# Altium integrated library STMicroelectronics Power Management Linear Regulator.IntLib: 506 symbols (part 8 of 10)
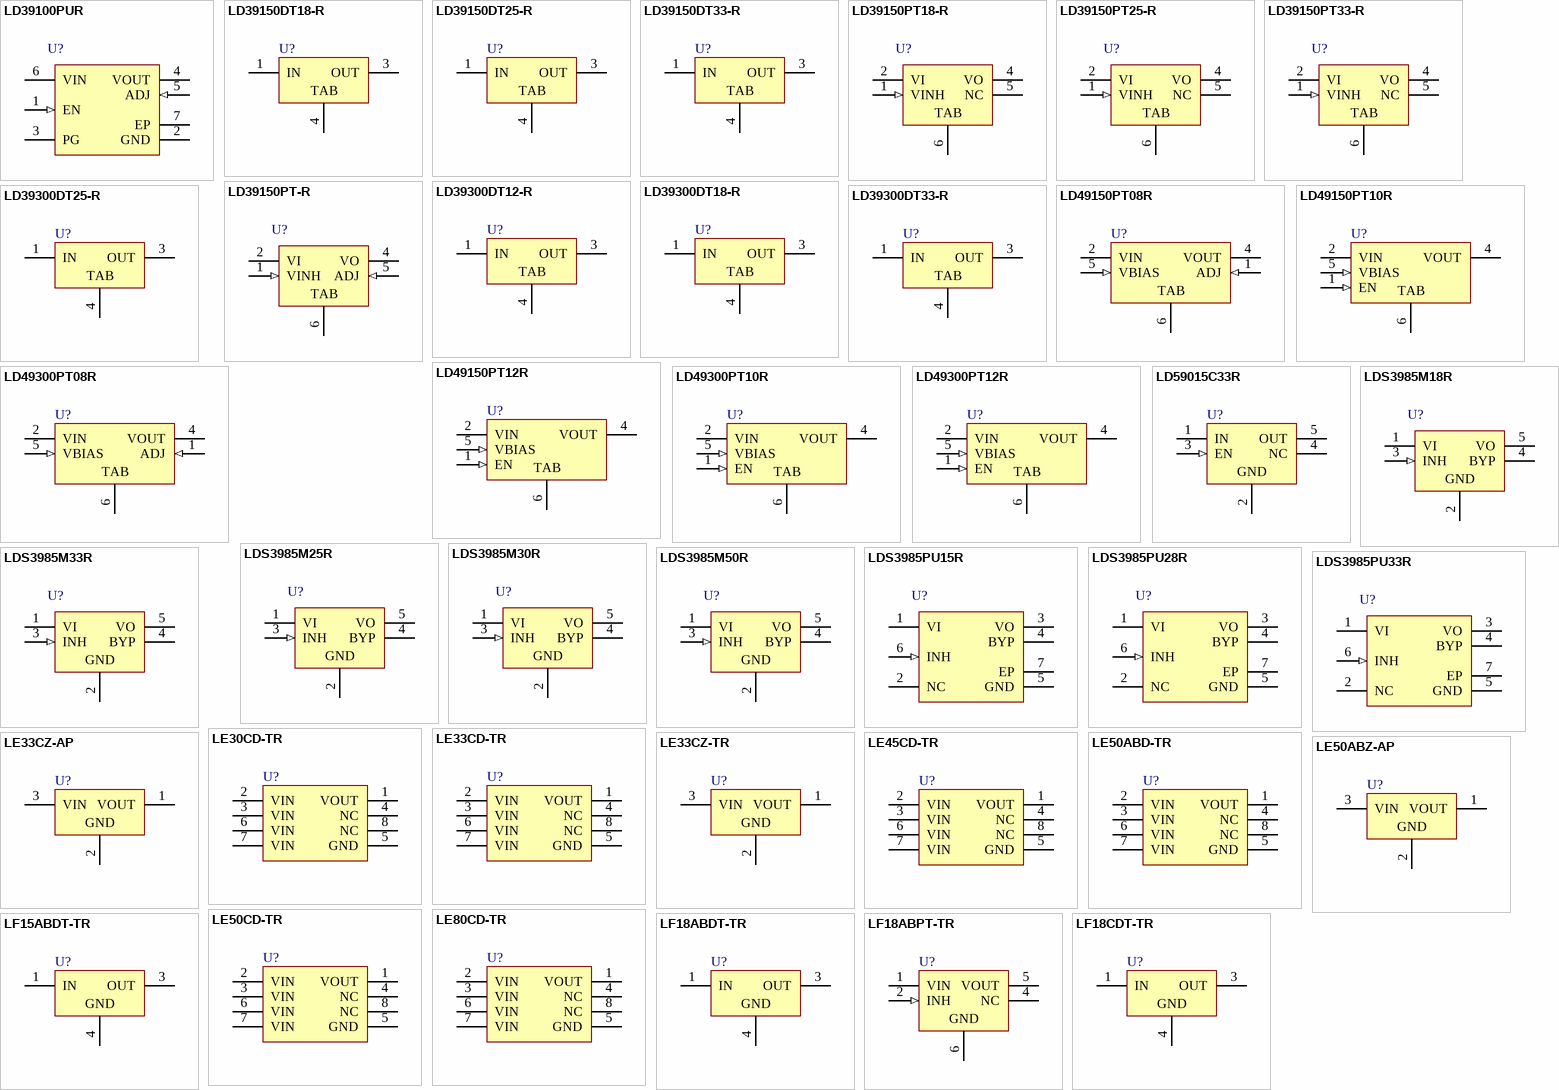
[diagram p19: symbols LD39100PUR to LF18CDT-TR]

## LE50ABZ-AP
designator U?
Very Low Drop Voltage Regulators with Inhibit, 5V, 3-Pin TO-92, Ammopak; PartNumber: LE50ABZ-AP; DatasheetVersion: Jul-2008; PackageVersion: 2011; PackageReference: TO-92; PackageDescription: TO, Flat Index; 3 In-Line, Axial Leads; Body Dia. 4.7mm; Lead Dia. 0.56 mm (max); ComponentLink1Description: Manufacturer URL; ComponentLink1URL: http://www.st.com; ComponentLink2Description: Datasheet; ComponentLink2URL: http://www.st.com/internet/com/TECHNICAL_RESOURCES/TECHNICAL_LITERATURE/DATASHEET/CD00000545.pdf
footprint TO-92 (TO, Flat Index; 3 In-Line, Axial Leads; Body Dia. 4.7mm; Lead Dia. 0.56 mm (max))
pins: 1 VOUT (power), 2 GND (power), 3 VIN (power)

## LE50CD-TR
designator U?
Very Low Drop Voltage Regulators with Inhibit, 5V, 8-Pin SO, Tape and Reel; PartNumber: LE50CD-TR; DatasheetVersion: Jul-2008; PackageVersion: Dec-2002; PackageReference: SO8; PackageDescription: 8-Pin Small Outline Integrated Circuit 1.27 mm Pitch; Code_JEDEC: MS-012-AA; Code_IPC: SOIC127P600-8; ComponentLink1Description: Manufacturer URL; ComponentLink1URL: http://www.st.com; ComponentLink2Description: Datasheet; ComponentLink2URL: http://www.st.com/internet/com/TECHNICAL_RESOURCES/TECHNICAL_LITERATURE/DATASHEET/CD00000545.pdf; ComponentLink3Description: Package Specification; ComponentLink3URL: http://www.st.com/internet/com/TECHNICAL_RESOURCES/TECHNICAL_LITERATURE/PACKAGE_INFORMATION/CD00004680.pdf
footprint SO8_N (SOIC, 8-Leads, Body 4.9x3.9mm, Pitch 1.27mm, IPC Medium Density)
footprint SO8_L (SOIC, 8-Leads, Body 4.9x3.9mm, Pitch 1.27mm, IPC High Density)
footprint SO8_M (SOIC, 8-Leads, Body 4.9x3.9mm, Pitch 1.27mm, IPC Low Density)
pins: 1 VOUT (power), 2 VIN (power), 3 VIN (power), 4 NC, 5 GND (power), 6 VIN (power), 7 VIN (power), 8 NC

## LE80CD-TR
designator U?
Very Low Drop Voltage Regulators with Inhibit, 8V, 8-Pin SO, Tape and Reel; PartNumber: LE80CD-TR; DatasheetVersion: Jul-2008; PackageVersion: Dec-2002; PackageReference: SO8; PackageDescription: 8-Pin Small Outline Integrated Circuit 1.27 mm Pitch; Code_JEDEC: MS-012-AA; Code_IPC: SOIC127P600-8; ComponentLink1Description: Manufacturer URL; ComponentLink1URL: http://www.st.com; ComponentLink2Description: Datasheet; ComponentLink2URL: http://www.st.com/internet/com/TECHNICAL_RESOURCES/TECHNICAL_LITERATURE/DATASHEET/CD00000545.pdf; ComponentLink3Description: Package Specification; ComponentLink3URL: http://www.st.com/internet/com/TECHNICAL_RESOURCES/TECHNICAL_LITERATURE/PACKAGE_INFORMATION/CD00004680.pdf
footprint SO8_N (SOIC, 8-Leads, Body 4.9x3.9mm, Pitch 1.27mm, IPC Medium Density)
footprint SO8_L (SOIC, 8-Leads, Body 4.9x3.9mm, Pitch 1.27mm, IPC High Density)
footprint SO8_M (SOIC, 8-Leads, Body 4.9x3.9mm, Pitch 1.27mm, IPC Low Density)
pins: 1 VOUT (power), 2 VIN (power), 3 VIN (power), 4 NC, 5 GND (power), 6 VIN (power), 7 VIN (power), 8 NC

## LF15ABDT-TR
designator U?
500mA, Very Low Drop (0.45V) Voltage Regulator, 1.5V, 3-Pin DPAK, Tape and Reel; PartNumber: LF15ABDT-TR; DatasheetVersion: Nov-2010; PackageVersion: 2011; PackageReference: TO-252; PackageDescription: 3-Pin Transistor Outline Package 2.28 mm Pitch, 9.7 mm Lead Span (DPAK); ComponentLink1Description: Manufacturer URL; ComponentLink1URL: http://www.st.com; ComponentLink2Description: Datasheet; ComponentLink2URL: http://www.st.com/internet/com/TECHNICAL_RESOURCES/TECHNICAL_LITERATURE/DATASHEET/CD00000546.pdf
footprint TO-252_N (D-PAK, 4-Leads, Body 6.1x6.5mm, Pitch 2.28mm, Lead Span 9.7mm, IPC Medium Density)
footprint TO-252_L (D-PAK, 4-Leads, Body 6.1x6.5mm, Pitch 2.28mm, Lead Span 9.7mm, IPC High Density)
footprint TO-252_M (D-PAK, 4-Leads, Body 6.1x6.5mm, Pitch 2.28mm, Lead Span 9.7mm, IPC Low Density)
pins: 1 IN (power), 3 OUT (power), 4 GND (power)

## LF18ABDT-TR
designator U?
500mA, Very Low Drop (0.45V) Voltage Regulator, 1.8V, 3-Pin DPAK, Tape and Reel; PartNumber: LF18ABDT-TR; DatasheetVersion: Nov-2010; PackageVersion: 2011; PackageReference: TO-252; PackageDescription: 3-Pin Transistor Outline Package 2.28 mm Pitch, 9.7 mm Lead Span (DPAK); ComponentLink1Description: Manufacturer URL; ComponentLink1URL: http://www.st.com; ComponentLink2Description: Datasheet; ComponentLink2URL: http://www.st.com/internet/com/TECHNICAL_RESOURCES/TECHNICAL_LITERATURE/DATASHEET/CD00000546.pdf
footprint TO-252_N (D-PAK, 4-Leads, Body 6.1x6.5mm, Pitch 2.28mm, Lead Span 9.7mm, IPC Medium Density)
footprint TO-252_L (D-PAK, 4-Leads, Body 6.1x6.5mm, Pitch 2.28mm, Lead Span 9.7mm, IPC High Density)
footprint TO-252_M (D-PAK, 4-Leads, Body 6.1x6.5mm, Pitch 2.28mm, Lead Span 9.7mm, IPC Low Density)
pins: 1 IN (power), 3 OUT (power), 4 GND (power)

## LF18ABPT-TR
designator U?
500mA, Very Low Drop (0.45V) Voltage Regulator, 1.8V, 5-Pin PPAK, Tape and Reel; PartNumber: LF18ABPT-TR; DatasheetVersion: Nov-2010; PackageVersion: Jun-2004; PackageReference: PPAK; PackageDescription: 5-Pin Transistor Outline Package 1.27 mm Pitch, 9.7 mm Lead Span; ComponentLink1Description: Manufacturer URL; ComponentLink1URL: http://www.st.com; ComponentLink2Description: Datasheet; ComponentLink2URL: http://www.st.com/internet/com/TECHNICAL_RESOURCES/TECHNICAL_LITERATURE/DATASHEET/CD00000546.pdf
footprint PPAK_N (D-PAK, 6-Leads, Body 6.1x6.5mm, Pitch 1.27mm, Lead Span 9.7mm, IPC Medium Density)
footprint PPAK_L (D-PAK, 6-Leads, Body 6.1x6.5mm, Pitch 1.27mm, Lead Span 9.7mm, IPC High Density)
footprint PPAK_M (D-PAK, 6-Leads, Body 6.1x6.5mm, Pitch 1.27mm, Lead Span 9.7mm, IPC Low Density)
pins: 1 VIN (power), 2 INH (in), 4 NC, 5 VOUT (power), 6 GND (power)

## LF18CDT-TR
designator U?
500mA, Very Low Drop (0.45V) Voltage Regulator, 1.8V, 3-Pin DPAK, Tape and Reel; PartNumber: LF18CDT-TR; DatasheetVersion: Nov-2010; PackageVersion: 2011; PackageReference: TO-252; PackageDescription: 3-Pin Transistor Outline Package 2.28 mm Pitch, 9.7 mm Lead Span (DPAK); ComponentLink1Description: Manufacturer URL; ComponentLink1URL: http://www.st.com; ComponentLink2Description: Datasheet; ComponentLink2URL: http://www.st.com/internet/com/TECHNICAL_RESOURCES/TECHNICAL_LITERATURE/DATASHEET/CD00000546.pdf
footprint TO-252_N (D-PAK, 4-Leads, Body 6.1x6.5mm, Pitch 2.28mm, Lead Span 9.7mm, IPC Medium Density)
footprint TO-252_L (D-PAK, 4-Leads, Body 6.1x6.5mm, Pitch 2.28mm, Lead Span 9.7mm, IPC High Density)
footprint TO-252_M (D-PAK, 4-Leads, Body 6.1x6.5mm, Pitch 2.28mm, Lead Span 9.7mm, IPC Low Density)
pins: 1 IN (power), 3 OUT (power), 4 GND (power)

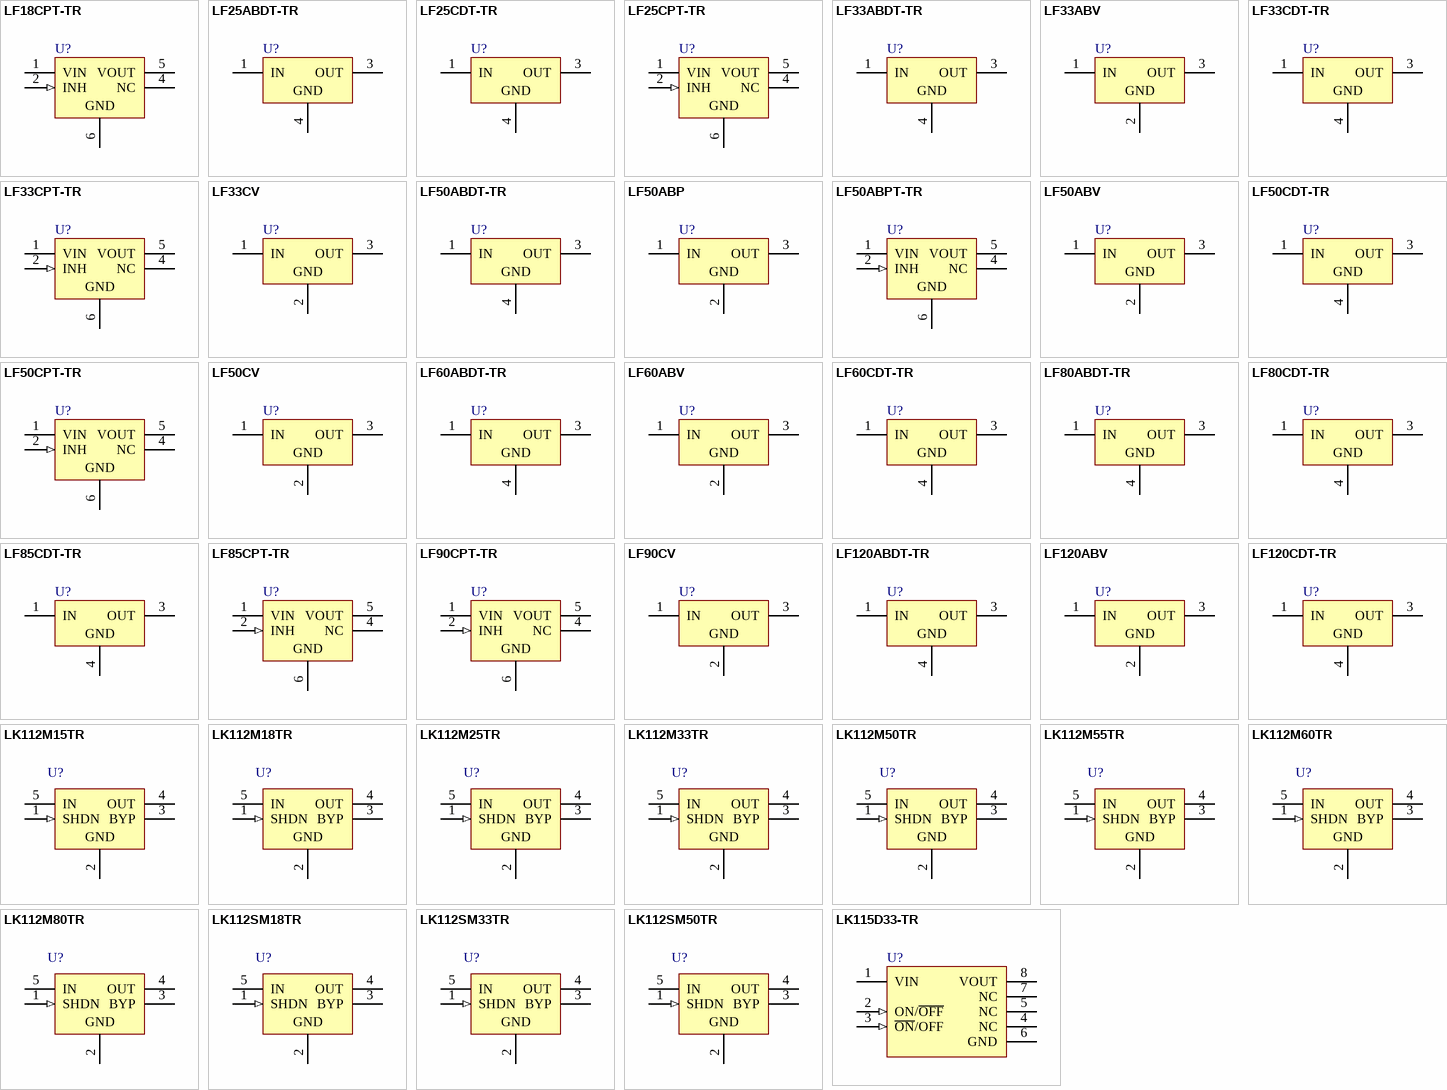
[diagram p10: symbols LF18CPT-TR to LK115D33-TR]

## LF18CPT-TR
designator U?
500mA, Very Low Drop (0.45V) Voltage Regulator, 1.8V, 5-Pin PPAK, Tape and Reel; PartNumber: LF18CPT-TR; DatasheetVersion: Nov-2010; PackageVersion: Jun-2004; PackageReference: PPAK; PackageDescription: 5-Pin Transistor Outline Package 1.27 mm Pitch, 9.7 mm Lead Span; ComponentLink1Description: Manufacturer URL; ComponentLink1URL: http://www.st.com; ComponentLink2Description: Datasheet; ComponentLink2URL: http://www.st.com/internet/com/TECHNICAL_RESOURCES/TECHNICAL_LITERATURE/DATASHEET/CD00000546.pdf
footprint PPAK_N (D-PAK, 6-Leads, Body 6.1x6.5mm, Pitch 1.27mm, Lead Span 9.7mm, IPC Medium Density)
footprint PPAK_L (D-PAK, 6-Leads, Body 6.1x6.5mm, Pitch 1.27mm, Lead Span 9.7mm, IPC High Density)
footprint PPAK_M (D-PAK, 6-Leads, Body 6.1x6.5mm, Pitch 1.27mm, Lead Span 9.7mm, IPC Low Density)
pins: 1 VIN (power), 2 INH (in), 4 NC, 5 VOUT (power), 6 GND (power)

## LF25ABDT-TR
designator U?
500mA, Very Low Drop (0.45V) Voltage Regulator, 2.5V, 3-Pin DPAK, Tape and Reel; PartNumber: LF25ABDT-TR; DatasheetVersion: Nov-2010; PackageVersion: 2011; PackageReference: TO-252; PackageDescription: 3-Pin Transistor Outline Package 2.28 mm Pitch, 9.7 mm Lead Span (DPAK); ComponentLink1Description: Manufacturer URL; ComponentLink1URL: http://www.st.com; ComponentLink2Description: Datasheet; ComponentLink2URL: http://www.st.com/internet/com/TECHNICAL_RESOURCES/TECHNICAL_LITERATURE/DATASHEET/CD00000546.pdf
footprint TO-252_N (D-PAK, 4-Leads, Body 6.1x6.5mm, Pitch 2.28mm, Lead Span 9.7mm, IPC Medium Density)
footprint TO-252_L (D-PAK, 4-Leads, Body 6.1x6.5mm, Pitch 2.28mm, Lead Span 9.7mm, IPC High Density)
footprint TO-252_M (D-PAK, 4-Leads, Body 6.1x6.5mm, Pitch 2.28mm, Lead Span 9.7mm, IPC Low Density)
pins: 1 IN (power), 3 OUT (power), 4 GND (power)

## LF25CDT-TR
designator U?
500mA, Very Low Drop (0.45V) Voltage Regulator, 2.5V, 3-Pin DPAK, Tape and Reel; PartNumber: LF25CDT-TR; DatasheetVersion: Nov-2010; PackageVersion: 2011; PackageReference: TO-252; PackageDescription: 3-Pin Transistor Outline Package 2.28 mm Pitch, 9.7 mm Lead Span (DPAK); ComponentLink1Description: Manufacturer URL; ComponentLink1URL: http://www.st.com; ComponentLink2Description: Datasheet; ComponentLink2URL: http://www.st.com/internet/com/TECHNICAL_RESOURCES/TECHNICAL_LITERATURE/DATASHEET/CD00000546.pdf
footprint TO-252_N (D-PAK, 4-Leads, Body 6.1x6.5mm, Pitch 2.28mm, Lead Span 9.7mm, IPC Medium Density)
footprint TO-252_L (D-PAK, 4-Leads, Body 6.1x6.5mm, Pitch 2.28mm, Lead Span 9.7mm, IPC High Density)
footprint TO-252_M (D-PAK, 4-Leads, Body 6.1x6.5mm, Pitch 2.28mm, Lead Span 9.7mm, IPC Low Density)
pins: 1 IN (power), 3 OUT (power), 4 GND (power)

## LF25CPT-TR
designator U?
500mA, Very Low Drop (0.45V) Voltage Regulator, 2.5V, 5-Pin PPAK, Tape and Reel; PartNumber: LF25CPT-TR; DatasheetVersion: Nov-2010; PackageVersion: Jun-2004; PackageReference: PPAK; PackageDescription: 5-Pin Transistor Outline Package 1.27 mm Pitch, 9.7 mm Lead Span; ComponentLink1Description: Manufacturer URL; ComponentLink1URL: http://www.st.com; ComponentLink2Description: Datasheet; ComponentLink2URL: http://www.st.com/internet/com/TECHNICAL_RESOURCES/TECHNICAL_LITERATURE/DATASHEET/CD00000546.pdf
footprint PPAK_N (D-PAK, 6-Leads, Body 6.1x6.5mm, Pitch 1.27mm, Lead Span 9.7mm, IPC Medium Density)
footprint PPAK_L (D-PAK, 6-Leads, Body 6.1x6.5mm, Pitch 1.27mm, Lead Span 9.7mm, IPC High Density)
footprint PPAK_M (D-PAK, 6-Leads, Body 6.1x6.5mm, Pitch 1.27mm, Lead Span 9.7mm, IPC Low Density)
pins: 1 VIN (power), 2 INH (in), 4 NC, 5 VOUT (power), 6 GND (power)

## LF33ABDT-TR
designator U?
500mA, Very Low Drop (0.45V) Voltage Regulator, 3.3V, 3-Pin DPAK, Tape and Reel; PartNumber: LF33ABDT-TR; DatasheetVersion: Nov-2010; PackageVersion: 2011; PackageReference: TO-252; PackageDescription: 3-Pin Transistor Outline Package 2.28 mm Pitch, 9.7 mm Lead Span (DPAK); ComponentLink1Description: Manufacturer URL; ComponentLink1URL: http://www.st.com; ComponentLink2Description: Datasheet; ComponentLink2URL: http://www.st.com/internet/com/TECHNICAL_RESOURCES/TECHNICAL_LITERATURE/DATASHEET/CD00000546.pdf
footprint TO-252_N (D-PAK, 4-Leads, Body 6.1x6.5mm, Pitch 2.28mm, Lead Span 9.7mm, IPC Medium Density)
footprint TO-252_L (D-PAK, 4-Leads, Body 6.1x6.5mm, Pitch 2.28mm, Lead Span 9.7mm, IPC High Density)
footprint TO-252_M (D-PAK, 4-Leads, Body 6.1x6.5mm, Pitch 2.28mm, Lead Span 9.7mm, IPC Low Density)
pins: 1 IN (power), 3 OUT (power), 4 GND (power)

## LF33ABV
designator U?
500mA, Very Low Drop (0.45V) Voltage Regulator, 3.3V, 3-Pin TO-220; PartNumber: LF33ABV; DatasheetVersion: Nov-2010; PackageVersion: ver3.0; PackageReference: TO220; PackageDescription: TO, Thru-Hole, Vertical, Heatsink Mounted; 3 In-Line Leads; Pitch 2.54 mm; ComponentLink1Description: Manufacturer URL; ComponentLink1URL: http://www.st.com; ComponentLink2Description: Datasheet; ComponentLink2URL: http://www.st.com/internet/com/TECHNICAL_RESOURCES/TECHNICAL_LITERATURE/DATASHEET/CD00000546.pdf; ComponentLink3Description: Package Specification; ComponentLink3URL: http://www.st.com/internet/com/TECHNICAL_RESOURCES/TECHNICAL_LITERATURE/PACKAGE_INFORMATION/CD00004649.pdf
footprint TO220 (TO, Thru-Hole, Vertical, Heatsink Mounted; 3 In-Line Leads; Pitch 2.54 mm)
pins: 1 IN (power), 2 GND (power), 3 OUT (power)

## LF33CDT-TR
designator U?
500mA, Very Low Drop (0.45V) Voltage Regulator, 3.3V, 3-Pin DPAK, Tape and Reel; PartNumber: LF33CDT-TR; DatasheetVersion: Nov-2010; PackageVersion: 2011; PackageReference: TO-252; PackageDescription: 3-Pin Transistor Outline Package 2.28 mm Pitch, 9.7 mm Lead Span (DPAK); ComponentLink1Description: Manufacturer URL; ComponentLink1URL: http://www.st.com; ComponentLink2Description: Datasheet; ComponentLink2URL: http://www.st.com/internet/com/TECHNICAL_RESOURCES/TECHNICAL_LITERATURE/DATASHEET/CD00000546.pdf
footprint TO-252_N (D-PAK, 4-Leads, Body 6.1x6.5mm, Pitch 2.28mm, Lead Span 9.7mm, IPC Medium Density)
footprint TO-252_L (D-PAK, 4-Leads, Body 6.1x6.5mm, Pitch 2.28mm, Lead Span 9.7mm, IPC High Density)
footprint TO-252_M (D-PAK, 4-Leads, Body 6.1x6.5mm, Pitch 2.28mm, Lead Span 9.7mm, IPC Low Density)
pins: 1 IN (power), 3 OUT (power), 4 GND (power)

## LF33CPT-TR
designator U?
500mA, Very Low Drop (0.45V) Voltage Regulator, 3.3V, 5-Pin PPAK, Tape and Reel; PartNumber: LF33CPT-TR; DatasheetVersion: Nov-2010; PackageVersion: Jun-2004; PackageReference: PPAK; PackageDescription: 5-Pin Transistor Outline Package 1.27 mm Pitch, 9.7 mm Lead Span; ComponentLink1Description: Manufacturer URL; ComponentLink1URL: http://www.st.com; ComponentLink2Description: Datasheet; ComponentLink2URL: http://www.st.com/internet/com/TECHNICAL_RESOURCES/TECHNICAL_LITERATURE/DATASHEET/CD00000546.pdf
footprint PPAK_N (D-PAK, 6-Leads, Body 6.1x6.5mm, Pitch 1.27mm, Lead Span 9.7mm, IPC Medium Density)
footprint PPAK_L (D-PAK, 6-Leads, Body 6.1x6.5mm, Pitch 1.27mm, Lead Span 9.7mm, IPC High Density)
footprint PPAK_M (D-PAK, 6-Leads, Body 6.1x6.5mm, Pitch 1.27mm, Lead Span 9.7mm, IPC Low Density)
pins: 1 VIN (power), 2 INH (in), 4 NC, 5 VOUT (power), 6 GND (power)

## LF33CV
designator U?
500mA, Very Low Drop (0.45V) Voltage Regulator, 3.3V, 3-Pin TO-220; PartNumber: LF33CV; DatasheetVersion: Nov-2010; PackageVersion: ver3.0; PackageReference: TO220; PackageDescription: TO, Thru-Hole, Vertical, Heatsink Mounted; 3 In-Line Leads; Pitch 2.54 mm; ComponentLink1Description: Manufacturer URL; ComponentLink1URL: http://www.st.com; ComponentLink2Description: Datasheet; ComponentLink2URL: http://www.st.com/internet/com/TECHNICAL_RESOURCES/TECHNICAL_LITERATURE/DATASHEET/CD00000546.pdf; ComponentLink3Description: Package Specification; ComponentLink3URL: http://www.st.com/internet/com/TECHNICAL_RESOURCES/TECHNICAL_LITERATURE/PACKAGE_INFORMATION/CD00004649.pdf
footprint TO220 (TO, Thru-Hole, Vertical, Heatsink Mounted; 3 In-Line Leads; Pitch 2.54 mm)
pins: 1 IN (power), 2 GND (power), 3 OUT (power)

## LF50ABDT-TR
designator U?
500mA, Very Low Drop (0.45V) Voltage Regulator, 5V, 3-Pin DPAK, Tape and Reel; PartNumber: LF50ABDT-TR; DatasheetVersion: Nov-2010; PackageVersion: 2011; PackageReference: TO-252; PackageDescription: 3-Pin Transistor Outline Package 2.28 mm Pitch, 9.7 mm Lead Span (DPAK); ComponentLink1Description: Manufacturer URL; ComponentLink1URL: http://www.st.com; ComponentLink2Description: Datasheet; ComponentLink2URL: http://www.st.com/internet/com/TECHNICAL_RESOURCES/TECHNICAL_LITERATURE/DATASHEET/CD00000546.pdf
footprint TO-252_N (D-PAK, 4-Leads, Body 6.1x6.5mm, Pitch 2.28mm, Lead Span 9.7mm, IPC Medium Density)
footprint TO-252_L (D-PAK, 4-Leads, Body 6.1x6.5mm, Pitch 2.28mm, Lead Span 9.7mm, IPC High Density)
footprint TO-252_M (D-PAK, 4-Leads, Body 6.1x6.5mm, Pitch 2.28mm, Lead Span 9.7mm, IPC Low Density)
pins: 1 IN (power), 3 OUT (power), 4 GND (power)

## LF50ABP
designator U?
500mA, Very Low Drop (0.45V) Voltage Regulator, 5V, 3-Pin TO-220FP; PartNumber: LF50ABP; DatasheetVersion: Nov-2010; PackageVersion: 2011; PackageReference: TO220FP; PackageDescription: TO, Thru-Hole, Vertical, Heatsink Mounted; 3 In-Line Leads; Pitch 2.54 mm; ComponentLink1Description: Manufacturer URL; ComponentLink1URL: http://www.st.com; ComponentLink2Description: Datasheet; ComponentLink2URL: http://www.st.com/internet/com/TECHNICAL_RESOURCES/TECHNICAL_LITERATURE/DATASHEET/CD00000546.pdf
footprint TO220FP (TO, Thru-Hole, Vertical, Heatsink Mounted; 3 In-Line Leads; Pitch 2.54 mm)
pins: 1 IN (power), 2 GND (power), 3 OUT (power)

## LF50ABPT-TR
designator U?
500mA, Very Low Drop (0.45V) Voltage Regulator, 5V, 5-Pin PPAK, Tape and Reel; PartNumber: LF50ABPT-TR; DatasheetVersion: Nov-2010; PackageVersion: Jun-2004; PackageReference: PPAK; PackageDescription: 5-Pin Transistor Outline Package 1.27 mm Pitch, 9.7 mm Lead Span; ComponentLink1Description: Manufacturer URL; ComponentLink1URL: http://www.st.com; ComponentLink2Description: Datasheet; ComponentLink2URL: http://www.st.com/internet/com/TECHNICAL_RESOURCES/TECHNICAL_LITERATURE/DATASHEET/CD00000546.pdf
footprint PPAK_N (D-PAK, 6-Leads, Body 6.1x6.5mm, Pitch 1.27mm, Lead Span 9.7mm, IPC Medium Density)
footprint PPAK_L (D-PAK, 6-Leads, Body 6.1x6.5mm, Pitch 1.27mm, Lead Span 9.7mm, IPC High Density)
footprint PPAK_M (D-PAK, 6-Leads, Body 6.1x6.5mm, Pitch 1.27mm, Lead Span 9.7mm, IPC Low Density)
pins: 1 VIN (power), 2 INH (in), 4 NC, 5 VOUT (power), 6 GND (power)

## LF50ABV
designator U?
500mA, Very Low Drop (0.45V) Voltage Regulator, 5V, 3-Pin TO-220; PartNumber: LF50ABV; DatasheetVersion: Nov-2010; PackageVersion: ver3.0; PackageReference: TO220; PackageDescription: TO, Thru-Hole, Vertical, Heatsink Mounted; 3 In-Line Leads; Pitch 2.54 mm; ComponentLink1Description: Manufacturer URL; ComponentLink1URL: http://www.st.com; ComponentLink2Description: Datasheet; ComponentLink2URL: http://www.st.com/internet/com/TECHNICAL_RESOURCES/TECHNICAL_LITERATURE/DATASHEET/CD00000546.pdf; ComponentLink3Description: Package Specification; ComponentLink3URL: http://www.st.com/internet/com/TECHNICAL_RESOURCES/TECHNICAL_LITERATURE/PACKAGE_INFORMATION/CD00004649.pdf
footprint TO220 (TO, Thru-Hole, Vertical, Heatsink Mounted; 3 In-Line Leads; Pitch 2.54 mm)
pins: 1 IN (power), 2 GND (power), 3 OUT (power)

## LF50CDT-TR
designator U?
500mA, Very Low Drop (0.45V) Voltage Regulator, 5V, 3-Pin DPAK, Tape and Reel; PartNumber: LF50CDT-TR; DatasheetVersion: Nov-2010; PackageVersion: 2011; PackageReference: TO-252; PackageDescription: 3-Pin Transistor Outline Package 2.28 mm Pitch, 9.7 mm Lead Span (DPAK); ComponentLink1Description: Manufacturer URL; ComponentLink1URL: http://www.st.com; ComponentLink2Description: Datasheet; ComponentLink2URL: http://www.st.com/internet/com/TECHNICAL_RESOURCES/TECHNICAL_LITERATURE/DATASHEET/CD00000546.pdf
footprint TO-252_N (D-PAK, 4-Leads, Body 6.1x6.5mm, Pitch 2.28mm, Lead Span 9.7mm, IPC Medium Density)
footprint TO-252_L (D-PAK, 4-Leads, Body 6.1x6.5mm, Pitch 2.28mm, Lead Span 9.7mm, IPC High Density)
footprint TO-252_M (D-PAK, 4-Leads, Body 6.1x6.5mm, Pitch 2.28mm, Lead Span 9.7mm, IPC Low Density)
pins: 1 IN (power), 3 OUT (power), 4 GND (power)

## LF50CPT-TR
designator U?
500mA, Very Low Drop (0.45V) Voltage Regulator, 5V, 5-Pin PPAK, Tape and Reel; PartNumber: LF50CPT-TR; DatasheetVersion: Nov-2010; PackageVersion: Jun-2004; PackageReference: PPAK; PackageDescription: 5-Pin Transistor Outline Package 1.27 mm Pitch, 9.7 mm Lead Span; ComponentLink1Description: Manufacturer URL; ComponentLink1URL: http://www.st.com; ComponentLink2Description: Datasheet; ComponentLink2URL: http://www.st.com/internet/com/TECHNICAL_RESOURCES/TECHNICAL_LITERATURE/DATASHEET/CD00000546.pdf
footprint PPAK_N (D-PAK, 6-Leads, Body 6.1x6.5mm, Pitch 1.27mm, Lead Span 9.7mm, IPC Medium Density)
footprint PPAK_L (D-PAK, 6-Leads, Body 6.1x6.5mm, Pitch 1.27mm, Lead Span 9.7mm, IPC High Density)
footprint PPAK_M (D-PAK, 6-Leads, Body 6.1x6.5mm, Pitch 1.27mm, Lead Span 9.7mm, IPC Low Density)
pins: 1 VIN (power), 2 INH (in), 4 NC, 5 VOUT (power), 6 GND (power)

## LF50CV
designator U?
500mA, Very Low Drop (0.45V) Voltage Regulator, 5V, 3-Pin TO-220; PartNumber: LF50CV; DatasheetVersion: Nov-2010; PackageVersion: ver3.0; PackageReference: TO220; PackageDescription: TO, Thru-Hole, Vertical, Heatsink Mounted; 3 In-Line Leads; Pitch 2.54 mm; ComponentLink1Description: Manufacturer URL; ComponentLink1URL: http://www.st.com; ComponentLink2Description: Datasheet; ComponentLink2URL: http://www.st.com/internet/com/TECHNICAL_RESOURCES/TECHNICAL_LITERATURE/DATASHEET/CD00000546.pdf; ComponentLink3Description: Package Specification; ComponentLink3URL: http://www.st.com/internet/com/TECHNICAL_RESOURCES/TECHNICAL_LITERATURE/PACKAGE_INFORMATION/CD00004649.pdf
footprint TO220 (TO, Thru-Hole, Vertical, Heatsink Mounted; 3 In-Line Leads; Pitch 2.54 mm)
pins: 1 IN (power), 2 GND (power), 3 OUT (power)

## LF60ABDT-TR
designator U?
500mA, Very Low Drop (0.45V) Voltage Regulator, 6V, 3-Pin DPAK, Tape and Reel; PartNumber: LF60ABDT-TR; DatasheetVersion: Nov-2010; PackageVersion: 2011; PackageReference: TO-252; PackageDescription: 3-Pin Transistor Outline Package 2.28 mm Pitch, 9.7 mm Lead Span (DPAK); ComponentLink1Description: Manufacturer URL; ComponentLink1URL: http://www.st.com; ComponentLink2Description: Datasheet; ComponentLink2URL: http://www.st.com/internet/com/TECHNICAL_RESOURCES/TECHNICAL_LITERATURE/DATASHEET/CD00000546.pdf
footprint TO-252_N (D-PAK, 4-Leads, Body 6.1x6.5mm, Pitch 2.28mm, Lead Span 9.7mm, IPC Medium Density)
footprint TO-252_L (D-PAK, 4-Leads, Body 6.1x6.5mm, Pitch 2.28mm, Lead Span 9.7mm, IPC High Density)
footprint TO-252_M (D-PAK, 4-Leads, Body 6.1x6.5mm, Pitch 2.28mm, Lead Span 9.7mm, IPC Low Density)
pins: 1 IN (power), 3 OUT (power), 4 GND (power)

## LF60ABV
designator U?
500mA, Very Low Drop (0.45V) Voltage Regulator, 6V, 3-Pin TO-220; PartNumber: LF60ABV; DatasheetVersion: Nov-2010; PackageVersion: ver3.0; PackageReference: TO220; PackageDescription: TO, Thru-Hole, Vertical, Heatsink Mounted; 3 In-Line Leads; Pitch 2.54 mm; ComponentLink1Description: Manufacturer URL; ComponentLink1URL: http://www.st.com; ComponentLink2Description: Datasheet; ComponentLink2URL: http://www.st.com/internet/com/TECHNICAL_RESOURCES/TECHNICAL_LITERATURE/DATASHEET/CD00000546.pdf; ComponentLink3Description: Package Specification; ComponentLink3URL: http://www.st.com/internet/com/TECHNICAL_RESOURCES/TECHNICAL_LITERATURE/PACKAGE_INFORMATION/CD00004649.pdf
footprint TO220 (TO, Thru-Hole, Vertical, Heatsink Mounted; 3 In-Line Leads; Pitch 2.54 mm)
pins: 1 IN (power), 2 GND (power), 3 OUT (power)

## LF60CDT-TR
designator U?
500mA, Very Low Drop (0.45V) Voltage Regulator, 6V, 3-Pin DPAK, Tape and Reel; PartNumber: LF60CDT-TR; DatasheetVersion: Nov-2010; PackageVersion: 2011; PackageReference: TO-252; PackageDescription: 3-Pin Transistor Outline Package 2.28 mm Pitch, 9.7 mm Lead Span (DPAK); ComponentLink1Description: Manufacturer URL; ComponentLink1URL: http://www.st.com; ComponentLink2Description: Datasheet; ComponentLink2URL: http://www.st.com/internet/com/TECHNICAL_RESOURCES/TECHNICAL_LITERATURE/DATASHEET/CD00000546.pdf
footprint TO-252_N (D-PAK, 4-Leads, Body 6.1x6.5mm, Pitch 2.28mm, Lead Span 9.7mm, IPC Medium Density)
footprint TO-252_L (D-PAK, 4-Leads, Body 6.1x6.5mm, Pitch 2.28mm, Lead Span 9.7mm, IPC High Density)
footprint TO-252_M (D-PAK, 4-Leads, Body 6.1x6.5mm, Pitch 2.28mm, Lead Span 9.7mm, IPC Low Density)
pins: 1 IN (power), 3 OUT (power), 4 GND (power)

## LF80ABDT-TR
designator U?
500mA, Very Low Drop (0.45V) Voltage Regulator, 8V, 3-Pin DPAK, Tape and Reel; PartNumber: LF80ABDT-TR; DatasheetVersion: Nov-2010; PackageVersion: 2011; PackageReference: TO-252; PackageDescription: 3-Pin Transistor Outline Package 2.28 mm Pitch, 9.7 mm Lead Span (DPAK); ComponentLink1Description: Manufacturer URL; ComponentLink1URL: http://www.st.com; ComponentLink2Description: Datasheet; ComponentLink2URL: http://www.st.com/internet/com/TECHNICAL_RESOURCES/TECHNICAL_LITERATURE/DATASHEET/CD00000546.pdf
footprint TO-252_N (D-PAK, 4-Leads, Body 6.1x6.5mm, Pitch 2.28mm, Lead Span 9.7mm, IPC Medium Density)
footprint TO-252_L (D-PAK, 4-Leads, Body 6.1x6.5mm, Pitch 2.28mm, Lead Span 9.7mm, IPC High Density)
footprint TO-252_M (D-PAK, 4-Leads, Body 6.1x6.5mm, Pitch 2.28mm, Lead Span 9.7mm, IPC Low Density)
pins: 1 IN (power), 3 OUT (power), 4 GND (power)

## LF80CDT-TR
designator U?
500mA, Very Low Drop (0.45V) Voltage Regulator, 8V, 3-Pin DPAK, Tape and Reel; PartNumber: LF80CDT-TR; DatasheetVersion: Nov-2010; PackageVersion: 2011; PackageReference: TO-252; PackageDescription: 3-Pin Transistor Outline Package 2.28 mm Pitch, 9.7 mm Lead Span (DPAK); ComponentLink1Description: Manufacturer URL; ComponentLink1URL: http://www.st.com; ComponentLink2Description: Datasheet; ComponentLink2URL: http://www.st.com/internet/com/TECHNICAL_RESOURCES/TECHNICAL_LITERATURE/DATASHEET/CD00000546.pdf
footprint TO-252_N (D-PAK, 4-Leads, Body 6.1x6.5mm, Pitch 2.28mm, Lead Span 9.7mm, IPC Medium Density)
footprint TO-252_L (D-PAK, 4-Leads, Body 6.1x6.5mm, Pitch 2.28mm, Lead Span 9.7mm, IPC High Density)
footprint TO-252_M (D-PAK, 4-Leads, Body 6.1x6.5mm, Pitch 2.28mm, Lead Span 9.7mm, IPC Low Density)
pins: 1 IN (power), 3 OUT (power), 4 GND (power)

## LF85CDT-TR
designator U?
500mA, Very Low Drop (0.45V) Voltage Regulator, 8.5V, 3-Pin DPAK, Tape and Reel; PartNumber: LF85CDT-TR; DatasheetVersion: Nov-2010; PackageVersion: 2011; PackageReference: TO-252; PackageDescription: 3-Pin Transistor Outline Package 2.28 mm Pitch, 9.7 mm Lead Span (DPAK); ComponentLink1Description: Manufacturer URL; ComponentLink1URL: http://www.st.com; ComponentLink2Description: Datasheet; ComponentLink2URL: http://www.st.com/internet/com/TECHNICAL_RESOURCES/TECHNICAL_LITERATURE/DATASHEET/CD00000546.pdf
footprint TO-252_N (D-PAK, 4-Leads, Body 6.1x6.5mm, Pitch 2.28mm, Lead Span 9.7mm, IPC Medium Density)
footprint TO-252_L (D-PAK, 4-Leads, Body 6.1x6.5mm, Pitch 2.28mm, Lead Span 9.7mm, IPC High Density)
footprint TO-252_M (D-PAK, 4-Leads, Body 6.1x6.5mm, Pitch 2.28mm, Lead Span 9.7mm, IPC Low Density)
pins: 1 IN (power), 3 OUT (power), 4 GND (power)

## LF85CPT-TR
designator U?
500mA, Very Low Drop (0.45V) Voltage Regulator, 8.5V, 5-Pin PPAK, Tape and Reel; PartNumber: LF85CPT-TR; DatasheetVersion: Nov-2010; PackageVersion: Jun-2004; PackageReference: PPAK; PackageDescription: 5-Pin Transistor Outline Package 1.27 mm Pitch, 9.7 mm Lead Span; ComponentLink1Description: Manufacturer URL; ComponentLink1URL: http://www.st.com; ComponentLink2Description: Datasheet; ComponentLink2URL: http://www.st.com/internet/com/TECHNICAL_RESOURCES/TECHNICAL_LITERATURE/DATASHEET/CD00000546.pdf
footprint PPAK_N (D-PAK, 6-Leads, Body 6.1x6.5mm, Pitch 1.27mm, Lead Span 9.7mm, IPC Medium Density)
footprint PPAK_L (D-PAK, 6-Leads, Body 6.1x6.5mm, Pitch 1.27mm, Lead Span 9.7mm, IPC High Density)
footprint PPAK_M (D-PAK, 6-Leads, Body 6.1x6.5mm, Pitch 1.27mm, Lead Span 9.7mm, IPC Low Density)
pins: 1 VIN (power), 2 INH (in), 4 NC, 5 VOUT (power), 6 GND (power)

## LF90CPT-TR
designator U?
500mA, Very Low Drop (0.45V) Voltage Regulator, 9V, 5-Pin PPAK, Tape and Reel; PartNumber: LF90CPT-TR; DatasheetVersion: Nov-2010; PackageVersion: Jun-2004; PackageReference: PPAK; PackageDescription: 5-Pin Transistor Outline Package 1.27 mm Pitch, 9.7 mm Lead Span; ComponentLink1Description: Manufacturer URL; ComponentLink1URL: http://www.st.com; ComponentLink2Description: Datasheet; ComponentLink2URL: http://www.st.com/internet/com/TECHNICAL_RESOURCES/TECHNICAL_LITERATURE/DATASHEET/CD00000546.pdf
footprint PPAK_N (D-PAK, 6-Leads, Body 6.1x6.5mm, Pitch 1.27mm, Lead Span 9.7mm, IPC Medium Density)
footprint PPAK_L (D-PAK, 6-Leads, Body 6.1x6.5mm, Pitch 1.27mm, Lead Span 9.7mm, IPC High Density)
footprint PPAK_M (D-PAK, 6-Leads, Body 6.1x6.5mm, Pitch 1.27mm, Lead Span 9.7mm, IPC Low Density)
pins: 1 VIN (power), 2 INH (in), 4 NC, 5 VOUT (power), 6 GND (power)

## LF90CV
designator U?
500mA, Very Low Drop (0.45V) Voltage Regulator, 9V, 3-Pin TO-220; PartNumber: LF90CV; DatasheetVersion: Nov-2010; PackageVersion: ver3.0; PackageReference: TO220; PackageDescription: TO, Thru-Hole, Vertical, Heatsink Mounted; 3 In-Line Leads; Pitch 2.54 mm; ComponentLink1Description: Manufacturer URL; ComponentLink1URL: http://www.st.com; ComponentLink2Description: Datasheet; ComponentLink2URL: http://www.st.com/internet/com/TECHNICAL_RESOURCES/TECHNICAL_LITERATURE/DATASHEET/CD00000546.pdf; ComponentLink3Description: Package Specification; ComponentLink3URL: http://www.st.com/internet/com/TECHNICAL_RESOURCES/TECHNICAL_LITERATURE/PACKAGE_INFORMATION/CD00004649.pdf
footprint TO220 (TO, Thru-Hole, Vertical, Heatsink Mounted; 3 In-Line Leads; Pitch 2.54 mm)
pins: 1 IN (power), 2 GND (power), 3 OUT (power)

## LF120ABDT-TR
designator U?
500mA, Very Low Drop (0.45V) Voltage Regulator, 12V, 3-Pin DPAK, Tape and Reel; PartNumber: LF120ABDT-TR; DatasheetVersion: Nov-2010; PackageVersion: 2011; PackageReference: TO-252; PackageDescription: 3-Pin Transistor Outline Package 2.28 mm Pitch, 9.7 mm Lead Span (DPAK); ComponentLink1Description: Manufacturer URL; ComponentLink1URL: http://www.st.com; ComponentLink2Description: Datasheet; ComponentLink2URL: http://www.st.com/internet/com/TECHNICAL_RESOURCES/TECHNICAL_LITERATURE/DATASHEET/CD00000546.pdf
footprint TO-252_N (D-PAK, 4-Leads, Body 6.1x6.5mm, Pitch 2.28mm, Lead Span 9.7mm, IPC Medium Density)
footprint TO-252_L (D-PAK, 4-Leads, Body 6.1x6.5mm, Pitch 2.28mm, Lead Span 9.7mm, IPC High Density)
footprint TO-252_M (D-PAK, 4-Leads, Body 6.1x6.5mm, Pitch 2.28mm, Lead Span 9.7mm, IPC Low Density)
pins: 1 IN (power), 3 OUT (power), 4 GND (power)

## LF120ABV
designator U?
500mA, Very Low Drop (0.45V) Voltage Regulator, 12V, 3-Pin TO-220; PartNumber: LF120ABV; DatasheetVersion: Nov-2010; PackageVersion: ver3.0; PackageReference: TO220; PackageDescription: TO, Thru-Hole, Vertical, Heatsink Mounted; 3 In-Line Leads; Pitch 2.54 mm; ComponentLink1Description: Manufacturer URL; ComponentLink1URL: http://www.st.com; ComponentLink2Description: Datasheet; ComponentLink2URL: http://www.st.com/internet/com/TECHNICAL_RESOURCES/TECHNICAL_LITERATURE/DATASHEET/CD00000546.pdf; ComponentLink3Description: Package Specification; ComponentLink3URL: http://www.st.com/internet/com/TECHNICAL_RESOURCES/TECHNICAL_LITERATURE/PACKAGE_INFORMATION/CD00004649.pdf
footprint TO220 (TO, Thru-Hole, Vertical, Heatsink Mounted; 3 In-Line Leads; Pitch 2.54 mm)
pins: 1 IN (power), 2 GND (power), 3 OUT (power)

## LF120CDT-TR
designator U?
500mA, Very Low Drop (0.45V) Voltage Regulator, 12V, 3-Pin DPAK, Tape and Reel; PartNumber: LF120CDT-TR; DatasheetVersion: Nov-2010; PackageVersion: 2011; PackageReference: TO-252; PackageDescription: 3-Pin Transistor Outline Package 2.28 mm Pitch, 9.7 mm Lead Span (DPAK); ComponentLink1Description: Manufacturer URL; ComponentLink1URL: http://www.st.com; ComponentLink2Description: Datasheet; ComponentLink2URL: http://www.st.com/internet/com/TECHNICAL_RESOURCES/TECHNICAL_LITERATURE/DATASHEET/CD00000546.pdf
footprint TO-252_N (D-PAK, 4-Leads, Body 6.1x6.5mm, Pitch 2.28mm, Lead Span 9.7mm, IPC Medium Density)
footprint TO-252_L (D-PAK, 4-Leads, Body 6.1x6.5mm, Pitch 2.28mm, Lead Span 9.7mm, IPC High Density)
footprint TO-252_M (D-PAK, 4-Leads, Body 6.1x6.5mm, Pitch 2.28mm, Lead Span 9.7mm, IPC Low Density)
pins: 1 IN (power), 3 OUT (power), 4 GND (power)

## LK112M15TR
designator U?
Low Noise Low Drop Voltage Regulator with Shutdown Function, 1.5V, 5-Pin SOT23-5L, Tape and Reel; PartNumber: LK112M15TR; DatasheetVersion: Feb-2011; PackageVersion: 2008; PackageReference: SOT23-5L; PackageDescription: 5-Pin SOT-23 Package, 2.9 x 1.6 mm Body, 0.95 mm Pitch, 2.8 mm Lead Span; ComponentLink1Description: Manufacturer URL; ComponentLink1URL: http://www.st.com; ComponentLink2Description: Datasheet; ComponentLink2URL: http://www.st.com/internet/com/TECHNICAL_RESOURCES/TECHNICAL_LITERATURE/DATASHEET/CD00002190.pdf
footprint SOT23-5L_N (SOT23, 5-Leads, Body 2.9x1.6mm, Pitch 0.95mm, Lead Span 2.8mm, IPC Medium Density)
footprint SOT23-5L_L (SOT23, 5-Leads, Body 2.9x1.6mm, Pitch 0.95mm, Lead Span 2.8mm, IPC High Density)
footprint SOT23-5L_M (SOT23, 5-Leads, Body 2.9x1.6mm, Pitch 0.95mm, Lead Span 2.8mm, IPC Low Density)
pins: 1 SHDN (in), 2 GND (power), 3 BYP, 4 OUT (power), 5 IN (power)

## LK112M18TR
designator U?
Low Noise Low Drop Voltage Regulator with Shutdown Function, 1.8V, 5-Pin SOT23-5L, Tape and Reel; PartNumber: LK112M18TR; DatasheetVersion: Feb-2011; PackageVersion: 2008; PackageReference: SOT23-5L; PackageDescription: 5-Pin SOT-23 Package, 2.9 x 1.6 mm Body, 0.95 mm Pitch, 2.8 mm Lead Span; ComponentLink1Description: Manufacturer URL; ComponentLink1URL: http://www.st.com; ComponentLink2Description: Datasheet; ComponentLink2URL: http://www.st.com/internet/com/TECHNICAL_RESOURCES/TECHNICAL_LITERATURE/DATASHEET/CD00002190.pdf
footprint SOT23-5L_N (SOT23, 5-Leads, Body 2.9x1.6mm, Pitch 0.95mm, Lead Span 2.8mm, IPC Medium Density)
footprint SOT23-5L_L (SOT23, 5-Leads, Body 2.9x1.6mm, Pitch 0.95mm, Lead Span 2.8mm, IPC High Density)
footprint SOT23-5L_M (SOT23, 5-Leads, Body 2.9x1.6mm, Pitch 0.95mm, Lead Span 2.8mm, IPC Low Density)
pins: 1 SHDN (in), 2 GND (power), 3 BYP, 4 OUT (power), 5 IN (power)

## LK112M25TR
designator U?
Low Noise Low Drop Voltage Regulator with Shutdown Function, 2.5V, 5-Pin SOT23-5L, Tape and Reel; PartNumber: LK112M25TR; DatasheetVersion: Feb-2011; PackageVersion: 2008; PackageReference: SOT23-5L; PackageDescription: 5-Pin SOT-23 Package, 2.9 x 1.6 mm Body, 0.95 mm Pitch, 2.8 mm Lead Span; ComponentLink1Description: Manufacturer URL; ComponentLink1URL: http://www.st.com; ComponentLink2Description: Datasheet; ComponentLink2URL: http://www.st.com/internet/com/TECHNICAL_RESOURCES/TECHNICAL_LITERATURE/DATASHEET/CD00002190.pdf
footprint SOT23-5L_N (SOT23, 5-Leads, Body 2.9x1.6mm, Pitch 0.95mm, Lead Span 2.8mm, IPC Medium Density)
footprint SOT23-5L_L (SOT23, 5-Leads, Body 2.9x1.6mm, Pitch 0.95mm, Lead Span 2.8mm, IPC High Density)
footprint SOT23-5L_M (SOT23, 5-Leads, Body 2.9x1.6mm, Pitch 0.95mm, Lead Span 2.8mm, IPC Low Density)
pins: 1 SHDN (in), 2 GND (power), 3 BYP, 4 OUT (power), 5 IN (power)

## LK112M33TR
designator U?
Low Noise Low Drop Voltage Regulator with Shutdown Function, 3.3V, 5-Pin SOT23-5L, Tape and Reel; PartNumber: LK112M33TR; DatasheetVersion: Feb-2011; PackageVersion: 2008; PackageReference: SOT23-5L; PackageDescription: 5-Pin SOT-23 Package, 2.9 x 1.6 mm Body, 0.95 mm Pitch, 2.8 mm Lead Span; ComponentLink1Description: Manufacturer URL; ComponentLink1URL: http://www.st.com; ComponentLink2Description: Datasheet; ComponentLink2URL: http://www.st.com/internet/com/TECHNICAL_RESOURCES/TECHNICAL_LITERATURE/DATASHEET/CD00002190.pdf
footprint SOT23-5L_N (SOT23, 5-Leads, Body 2.9x1.6mm, Pitch 0.95mm, Lead Span 2.8mm, IPC Medium Density)
footprint SOT23-5L_L (SOT23, 5-Leads, Body 2.9x1.6mm, Pitch 0.95mm, Lead Span 2.8mm, IPC High Density)
footprint SOT23-5L_M (SOT23, 5-Leads, Body 2.9x1.6mm, Pitch 0.95mm, Lead Span 2.8mm, IPC Low Density)
pins: 1 SHDN (in), 2 GND (power), 3 BYP, 4 OUT (power), 5 IN (power)

## LK112M50TR
designator U?
Low Noise Low Drop Voltage Regulator with Shutdown Function, 5V, 5-Pin SOT23-5L, Tape and Reel; PartNumber: LK112M50TR; DatasheetVersion: Feb-2011; PackageVersion: 2008; PackageReference: SOT23-5L; PackageDescription: 5-Pin SOT-23 Package, 2.9 x 1.6 mm Body, 0.95 mm Pitch, 2.8 mm Lead Span; ComponentLink1Description: Manufacturer URL; ComponentLink1URL: http://www.st.com; ComponentLink2Description: Datasheet; ComponentLink2URL: http://www.st.com/internet/com/TECHNICAL_RESOURCES/TECHNICAL_LITERATURE/DATASHEET/CD00002190.pdf
footprint SOT23-5L_N (SOT23, 5-Leads, Body 2.9x1.6mm, Pitch 0.95mm, Lead Span 2.8mm, IPC Medium Density)
footprint SOT23-5L_L (SOT23, 5-Leads, Body 2.9x1.6mm, Pitch 0.95mm, Lead Span 2.8mm, IPC High Density)
footprint SOT23-5L_M (SOT23, 5-Leads, Body 2.9x1.6mm, Pitch 0.95mm, Lead Span 2.8mm, IPC Low Density)
pins: 1 SHDN (in), 2 GND (power), 3 BYP, 4 OUT (power), 5 IN (power)

## LK112M55TR
designator U?
Low Noise Low Drop Voltage Regulator with Shutdown Function, 5.5V, 5-Pin SOT23-5L, Tape and Reel; PartNumber: LK112M55TR; DatasheetVersion: Feb-2011; PackageVersion: 2008; PackageReference: SOT23-5L; PackageDescription: 5-Pin SOT-23 Package, 2.9 x 1.6 mm Body, 0.95 mm Pitch, 2.8 mm Lead Span; ComponentLink1Description: Manufacturer URL; ComponentLink1URL: http://www.st.com; ComponentLink2Description: Datasheet; ComponentLink2URL: http://www.st.com/internet/com/TECHNICAL_RESOURCES/TECHNICAL_LITERATURE/DATASHEET/CD00002190.pdf
footprint SOT23-5L_N (SOT23, 5-Leads, Body 2.9x1.6mm, Pitch 0.95mm, Lead Span 2.8mm, IPC Medium Density)
footprint SOT23-5L_L (SOT23, 5-Leads, Body 2.9x1.6mm, Pitch 0.95mm, Lead Span 2.8mm, IPC High Density)
footprint SOT23-5L_M (SOT23, 5-Leads, Body 2.9x1.6mm, Pitch 0.95mm, Lead Span 2.8mm, IPC Low Density)
pins: 1 SHDN (in), 2 GND (power), 3 BYP, 4 OUT (power), 5 IN (power)

## LK112M60TR
designator U?
Low Noise Low Drop Voltage Regulator with Shutdown Function, 6V, 5-Pin SOT23-5L, Tape and Reel; PartNumber: LK112M60TR; DatasheetVersion: Feb-2011; PackageVersion: 2008; PackageReference: SOT23-5L; PackageDescription: 5-Pin SOT-23 Package, 2.9 x 1.6 mm Body, 0.95 mm Pitch, 2.8 mm Lead Span; ComponentLink1Description: Manufacturer URL; ComponentLink1URL: http://www.st.com; ComponentLink2Description: Datasheet; ComponentLink2URL: http://www.st.com/internet/com/TECHNICAL_RESOURCES/TECHNICAL_LITERATURE/DATASHEET/CD00002190.pdf
footprint SOT23-5L_N (SOT23, 5-Leads, Body 2.9x1.6mm, Pitch 0.95mm, Lead Span 2.8mm, IPC Medium Density)
footprint SOT23-5L_L (SOT23, 5-Leads, Body 2.9x1.6mm, Pitch 0.95mm, Lead Span 2.8mm, IPC High Density)
footprint SOT23-5L_M (SOT23, 5-Leads, Body 2.9x1.6mm, Pitch 0.95mm, Lead Span 2.8mm, IPC Low Density)
pins: 1 SHDN (in), 2 GND (power), 3 BYP, 4 OUT (power), 5 IN (power)

## LK112M80TR
designator U?
Low Noise Low Drop Voltage Regulator with Shutdown Function, 8V, 5-Pin SOT23-5L, Tape and Reel; PartNumber: LK112M80TR; DatasheetVersion: Feb-2011; PackageVersion: 2008; PackageReference: SOT23-5L; PackageDescription: 5-Pin SOT-23 Package, 2.9 x 1.6 mm Body, 0.95 mm Pitch, 2.8 mm Lead Span; ComponentLink1Description: Manufacturer URL; ComponentLink1URL: http://www.st.com; ComponentLink2Description: Datasheet; ComponentLink2URL: http://www.st.com/internet/com/TECHNICAL_RESOURCES/TECHNICAL_LITERATURE/DATASHEET/CD00002190.pdf
footprint SOT23-5L_N (SOT23, 5-Leads, Body 2.9x1.6mm, Pitch 0.95mm, Lead Span 2.8mm, IPC Medium Density)
footprint SOT23-5L_L (SOT23, 5-Leads, Body 2.9x1.6mm, Pitch 0.95mm, Lead Span 2.8mm, IPC High Density)
footprint SOT23-5L_M (SOT23, 5-Leads, Body 2.9x1.6mm, Pitch 0.95mm, Lead Span 2.8mm, IPC Low Density)
pins: 1 SHDN (in), 2 GND (power), 3 BYP, 4 OUT (power), 5 IN (power)

## LK112SM18TR
designator U?
200mA, Low Noise Low Drop Voltage Regulator with Shutdown Function, 1.8V, 5-Pin SOT23-5L, Tape and Reel; PartNumber: LK112SM18TR; DatasheetVersion: Jul-2008; PackageVersion: 2008; PackageReference: SOT23-5L; PackageDescription: 5-Pin SOT-23 Package, 2.9 x 1.6 mm Body, 0.95 mm Pitch, 2.8 mm Lead Span; ComponentLink1Description: Manufacturer URL; ComponentLink1URL: http://www.st.com; ComponentLink2Description: Datasheet; ComponentLink2URL: http://www.st.com/internet/com/TECHNICAL_RESOURCES/TECHNICAL_LITERATURE/DATASHEET/CD00002558.pdf
footprint SOT23-5L_N (SOT23, 5-Leads, Body 2.9x1.6mm, Pitch 0.95mm, Lead Span 2.8mm, IPC Medium Density)
footprint SOT23-5L_L (SOT23, 5-Leads, Body 2.9x1.6mm, Pitch 0.95mm, Lead Span 2.8mm, IPC High Density)
footprint SOT23-5L_M (SOT23, 5-Leads, Body 2.9x1.6mm, Pitch 0.95mm, Lead Span 2.8mm, IPC Low Density)
pins: 1 SHDN (in), 2 GND (power), 3 BYP, 4 OUT (power), 5 IN (power)

## LK112SM33TR
designator U?
200mA, Low Noise Low Drop Voltage Regulator with Shutdown Function, 3.3V, 5-Pin SOT23-5L, Tape and Reel; PartNumber: LK112SM33TR; DatasheetVersion: Jul-2008; PackageVersion: 2008; PackageReference: SOT23-5L; PackageDescription: 5-Pin SOT-23 Package, 2.9 x 1.6 mm Body, 0.95 mm Pitch, 2.8 mm Lead Span; ComponentLink1Description: Manufacturer URL; ComponentLink1URL: http://www.st.com; ComponentLink2Description: Datasheet; ComponentLink2URL: http://www.st.com/internet/com/TECHNICAL_RESOURCES/TECHNICAL_LITERATURE/DATASHEET/CD00002558.pdf
footprint SOT23-5L_N (SOT23, 5-Leads, Body 2.9x1.6mm, Pitch 0.95mm, Lead Span 2.8mm, IPC Medium Density)
footprint SOT23-5L_L (SOT23, 5-Leads, Body 2.9x1.6mm, Pitch 0.95mm, Lead Span 2.8mm, IPC High Density)
footprint SOT23-5L_M (SOT23, 5-Leads, Body 2.9x1.6mm, Pitch 0.95mm, Lead Span 2.8mm, IPC Low Density)
pins: 1 SHDN (in), 2 GND (power), 3 BYP, 4 OUT (power), 5 IN (power)

## LK112SM50TR
designator U?
200mA, Low Noise Low Drop Voltage Regulator with Shutdown Function, 5V, 5-Pin SOT23-5L, Tape and Reel; PartNumber: LK112SM50TR; DatasheetVersion: Jul-2008; PackageVersion: 2008; PackageReference: SOT23-5L; PackageDescription: 5-Pin SOT-23 Package, 2.9 x 1.6 mm Body, 0.95 mm Pitch, 2.8 mm Lead Span; ComponentLink1Description: Manufacturer URL; ComponentLink1URL: http://www.st.com; ComponentLink2Description: Datasheet; ComponentLink2URL: http://www.st.com/internet/com/TECHNICAL_RESOURCES/TECHNICAL_LITERATURE/DATASHEET/CD00002558.pdf
footprint SOT23-5L_N (SOT23, 5-Leads, Body 2.9x1.6mm, Pitch 0.95mm, Lead Span 2.8mm, IPC Medium Density)
footprint SOT23-5L_L (SOT23, 5-Leads, Body 2.9x1.6mm, Pitch 0.95mm, Lead Span 2.8mm, IPC High Density)
footprint SOT23-5L_M (SOT23, 5-Leads, Body 2.9x1.6mm, Pitch 0.95mm, Lead Span 2.8mm, IPC Low Density)
pins: 1 SHDN (in), 2 GND (power), 3 BYP, 4 OUT (power), 5 IN (power)

## LK115D33-TR
designator U?
100mA, Very Low Drop (0.2V) with Inhibit Voltage Regulator, 3.3V, 8-Pin SO, Tape and Reel; PartNumber: LK115D33-TR; DatasheetVersion: Jul-2008; PackageVersion: Dec-2002; PackageReference: SO8; PackageDescription: 8-Pin Small Outline Integrated Circuit 1.27 mm Pitch; Code_JEDEC: MS-012-AA; Code_IPC: SOIC127P600-8; ComponentLink1Description: Manufacturer URL; ComponentLink1URL: http://www.st.com; ComponentLink2Description: Datasheet; ComponentLink2URL: http://www.st.com/internet/com/TECHNICAL_RESOURCES/TECHNICAL_LITERATURE/DATASHEET/CD00000547.pdf; ComponentLink3Description: Package Specification; ComponentLink3URL: http://www.st.com/internet/com/TECHNICAL_RESOURCES/TECHNICAL_LITERATURE/PACKAGE_INFORMATION/CD00004680.pdf
footprint SO8_N (SOIC, 8-Leads, Body 4.9x3.9mm, Pitch 1.27mm, IPC Medium Density)
footprint SO8_L (SOIC, 8-Leads, Body 4.9x3.9mm, Pitch 1.27mm, IPC High Density)
footprint SO8_M (SOIC, 8-Leads, Body 4.9x3.9mm, Pitch 1.27mm, IPC Low Density)
pins: 1 VIN (power), 2 ON/~{OFF} (in), 3 ~{ON}/OFF (in), 4 NC, 5 NC, 6 GND (power), 7 NC, 8 VOUT (power)

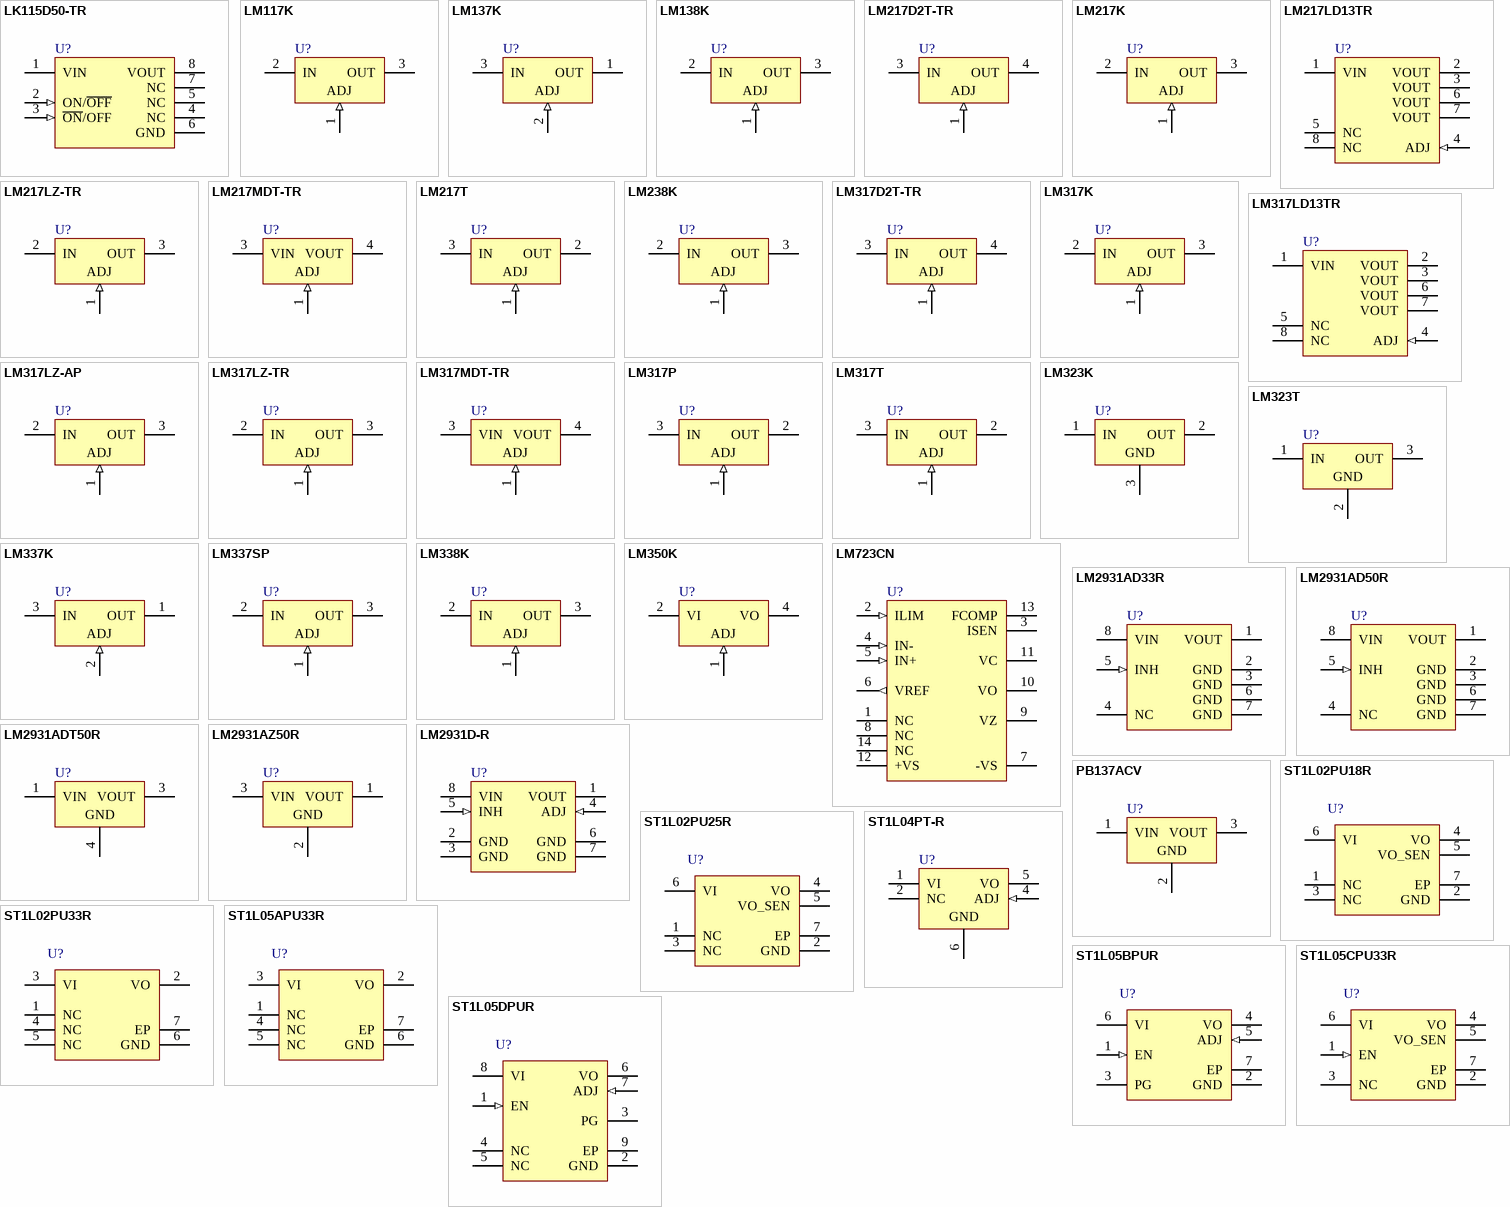
[diagram p11: symbols LK115D50-TR to ST1L05DPUR]

## LK115D50-TR
designator U?
100mA, Very Low Drop (0.2V) with Inhibit Voltage Regulator, 5V, 8-Pin SO, Tape and Reel; PartNumber: LK115D50-TR; DatasheetVersion: Jul-2008; PackageVersion: Dec-2002; PackageReference: SO8; PackageDescription: 8-Pin Small Outline Integrated Circuit 1.27 mm Pitch; Code_JEDEC: MS-012-AA; Code_IPC: SOIC127P600-8; ComponentLink1Description: Manufacturer URL; ComponentLink1URL: http://www.st.com; ComponentLink2Description: Datasheet; ComponentLink2URL: http://www.st.com/internet/com/TECHNICAL_RESOURCES/TECHNICAL_LITERATURE/DATASHEET/CD00000547.pdf; ComponentLink3Description: Package Specification; ComponentLink3URL: http://www.st.com/internet/com/TECHNICAL_RESOURCES/TECHNICAL_LITERATURE/PACKAGE_INFORMATION/CD00004680.pdf
footprint SO8_N (SOIC, 8-Leads, Body 4.9x3.9mm, Pitch 1.27mm, IPC Medium Density)
footprint SO8_L (SOIC, 8-Leads, Body 4.9x3.9mm, Pitch 1.27mm, IPC High Density)
footprint SO8_M (SOIC, 8-Leads, Body 4.9x3.9mm, Pitch 1.27mm, IPC Low Density)
pins: 1 VIN (power), 2 ON/~{OFF} (in), 3 ~{ON}/OFF (in), 4 NC, 5 NC, 6 GND (power), 7 NC, 8 VOUT (power)

## LM117K
designator U?
1.5A, 1.2V to 37V Adjustable Voltage Regulator, 3-Pin TO-3; PartNumber: LM117K; DatasheetVersion: Nov-2011; PackageVersion: ver1.0, Nov-2002; PackageReference: TO-3R; PackageDescription: Oval Flange Mount with (2) Offset Leads; Pin Spacing 10.92 mm; Lead Dia. 1.1 mm (max); ComponentLink1Description: Manufacturer URL; ComponentLink1URL: http://www.st.com; ComponentLink2Description: Datasheet; ComponentLink2URL: http://www.st.com/internet/com/TECHNICAL_RESOURCES/TECHNICAL_LITERATURE/DATASHEET/CD00000455.pdf; ComponentLink3Description: Package Specification; ComponentLink3URL: http://www.st.com/internet/com/TECHNICAL_RESOURCES/TECHNICAL_LITERATURE/PACKAGE_INFORMATION/CD00004846.pdf
footprint TO-3R (Oval Flange Mount with (2) Offset Leads; Pin Spacing 10.92 mm; Lead Dia. 1.1 mm (max))
pins: 1 ADJ (in), 2 IN (power), 3 OUT (power)

## LM137K
designator U?
Three-Terminal Negative Voltage Regulator, 3-Pin TO-3; PartNumber: LM137K; DatasheetVersion: Oct-2011; PackageVersion: ver1.0, Nov-2002; PackageReference: TO-3R; PackageDescription: Oval Flange Mount with (2) Offset Leads; Pin Spacing 10.92 mm; Lead Dia. 1.1 mm (max); ComponentLink1Description: Manufacturer URL; ComponentLink1URL: http://www.st.com; ComponentLink2Description: Datasheet; ComponentLink2URL: http://www.st.com/internet/com/TECHNICAL_RESOURCES/TECHNICAL_LITERATURE/DATASHEET/CD00000468.pdf; ComponentLink3Description: Package Specification; ComponentLink3URL: http://www.st.com/internet/com/TECHNICAL_RESOURCES/TECHNICAL_LITERATURE/PACKAGE_INFORMATION/CD00004846.pdf
footprint TO-3R (Oval Flange Mount with (2) Offset Leads; Pin Spacing 10.92 mm; Lead Dia. 1.1 mm (max))
pins: 1 OUT (power), 2 ADJ (in), 3 IN (power)

## LM138K
designator U?
Three-Terminal 5 A Adjustable Voltage Regulator, -55 °C to 150 °C, 3-Pin TO-3; PartNumber: LM138K; DatasheetVersion: Apr-2008; PackageVersion: ver1.0, Nov-2002; PackageReference: TO-3R; PackageDescription: Oval Flange Mount with (2) Offset Leads; Pin Spacing 10.92 mm; Lead Dia. 1.1 mm (max); ComponentLink1Description: Manufacturer URL; ComponentLink1URL: http://www.st.com; ComponentLink2Description: Datasheet; ComponentLink2URL: http://www.st.com/internet/com/TECHNICAL_RESOURCES/TECHNICAL_LITERATURE/DATASHEET/CD00000548.pdf; ComponentLink3Description: Package Specification; ComponentLink3URL: http://www.st.com/internet/com/TECHNICAL_RESOURCES/TECHNICAL_LITERATURE/PACKAGE_INFORMATION/CD00004846.pdf
footprint TO-3R (Oval Flange Mount with (2) Offset Leads; Pin Spacing 10.92 mm; Lead Dia. 1.1 mm (max))
pins: 1 ADJ (in), 2 IN (power), 3 OUT (power)

## LM217D2T-TR
designator U?
1.5A, 1.2V to 37V Adjustable Voltage Regulator, 3-Pin D2PAK, Tape and Reel; PartNumber: LM217D2T-TR; DatasheetVersion: Nov-2011; PackageVersion: 2011; PackageReference: TO-263; PackageDescription: 3-Pin Transistor Outline Package 2.54 mm Pitch, 15.4 mm Lead Span (D2PAK); ComponentLink1Description: Manufacturer URL; ComponentLink1URL: http://www.st.com; ComponentLink2Description: Datasheet; ComponentLink2URL: http://www.st.com/internet/com/TECHNICAL_RESOURCES/TECHNICAL_LITERATURE/DATASHEET/CD00000455.pdf
footprint TO-263_N (D2-PAK, 4-Leads, Body 9.2x10.2mm, Pitch 2.54mm, Lead Span 15.4mm, IPC Medium Density)
footprint TO-263_L (D2-PAK, 4-Leads, Body 9.2x10.2mm, Pitch 2.54mm, Lead Span 15.4mm, IPC High Density)
footprint TO-263_M (D2-PAK, 4-Leads, Body 9.2x10.2mm, Pitch 2.54mm, Lead Span 15.4mm, IPC Low Density)
pins: 1 ADJ (in), 3 IN (power), 4 OUT (power)

## LM217K
designator U?
1.5A, 1.2V to 37V Adjustable Voltage Regulator, 3-Pin TO-3; PartNumber: LM217K; DatasheetVersion: Nov-2011; PackageVersion: ver1.0, Nov-2002; PackageReference: TO-3R; PackageDescription: Oval Flange Mount with (2) Offset Leads; Pin Spacing 10.92 mm; Lead Dia. 1.1 mm (max); ComponentLink1Description: Manufacturer URL; ComponentLink1URL: http://www.st.com; ComponentLink2Description: Datasheet; ComponentLink2URL: http://www.st.com/internet/com/TECHNICAL_RESOURCES/TECHNICAL_LITERATURE/DATASHEET/CD00000455.pdf; ComponentLink3Description: Package Specification; ComponentLink3URL: http://www.st.com/internet/com/TECHNICAL_RESOURCES/TECHNICAL_LITERATURE/PACKAGE_INFORMATION/CD00004846.pdf
footprint TO-3R (Oval Flange Mount with (2) Offset Leads; Pin Spacing 10.92 mm; Lead Dia. 1.1 mm (max))
pins: 1 ADJ (in), 2 IN (power), 3 OUT (power)

## LM217LD13TR
designator U?
Low Current 1.2 to 37V Adjustable Voltage Regulator, 8-Pin SO, Tape and Reel; PartNumber: LM217LD13TR; DatasheetVersion: May-2007; PackageVersion: Dec-2002; PackageReference: SO8; PackageDescription: 8-Pin Small Outline Integrated Circuit 1.27 mm Pitch; Code_JEDEC: MS-012-AA; Code_IPC: SOIC127P600-8; ComponentLink1Description: Manufacturer URL; ComponentLink1URL: http://www.st.com; ComponentLink2Description: Datasheet; ComponentLink2URL: http://www.st.com/internet/com/TECHNICAL_RESOURCES/TECHNICAL_LITERATURE/DATASHEET/CD00000469.pdf; ComponentLink3Description: Package Specification; ComponentLink3URL: http://www.st.com/internet/com/TECHNICAL_RESOURCES/TECHNICAL_LITERATURE/PACKAGE_INFORMATION/CD00004680.pdf
footprint SO8_N (SOIC, 8-Leads, Body 4.9x3.9mm, Pitch 1.27mm, IPC Medium Density)
footprint SO8_L (SOIC, 8-Leads, Body 4.9x3.9mm, Pitch 1.27mm, IPC High Density)
footprint SO8_M (SOIC, 8-Leads, Body 4.9x3.9mm, Pitch 1.27mm, IPC Low Density)
pins: 1 VIN (power), 2 VOUT (power), 3 VOUT (power), 4 ADJ (in), 5 NC, 6 VOUT (power), 7 VOUT (power), 8 NC

## LM217LZ-TR
designator U?
Low Current 1.2 to 37V Adjustable Voltage Regulator, 3-Pin TO-92, Tape and Reel; PartNumber: LM217LZ-TR; DatasheetVersion: May-2007; PackageVersion: 2011; PackageReference: TO-92; PackageDescription: TO, Flat Index; 3 In-Line, Axial Leads; Body Dia. 4.7mm; Lead Dia. 0.56 mm (max); ComponentLink1Description: Manufacturer URL; ComponentLink1URL: http://www.st.com; ComponentLink2Description: Datasheet; ComponentLink2URL: http://www.st.com/internet/com/TECHNICAL_RESOURCES/TECHNICAL_LITERATURE/DATASHEET/CD00000469.pdf
footprint TO-92 (TO, Flat Index; 3 In-Line, Axial Leads; Body Dia. 4.7mm; Lead Dia. 0.56 mm (max))
pins: 1 ADJ (in), 2 IN (power), 3 OUT (power)